# Altium footprint library PcbLib1.PcbLib: 1 footprints
Each footprint in its own frame and in the unit in brackets; x right, y up, seen from the top. Pads: shape width x height; smd on the part's side, far side on the other; paste and mask are expansions set on the pad; w line width, h text height; cw(c..) or ccw(c..) is an arc to the next point about the centre after c.
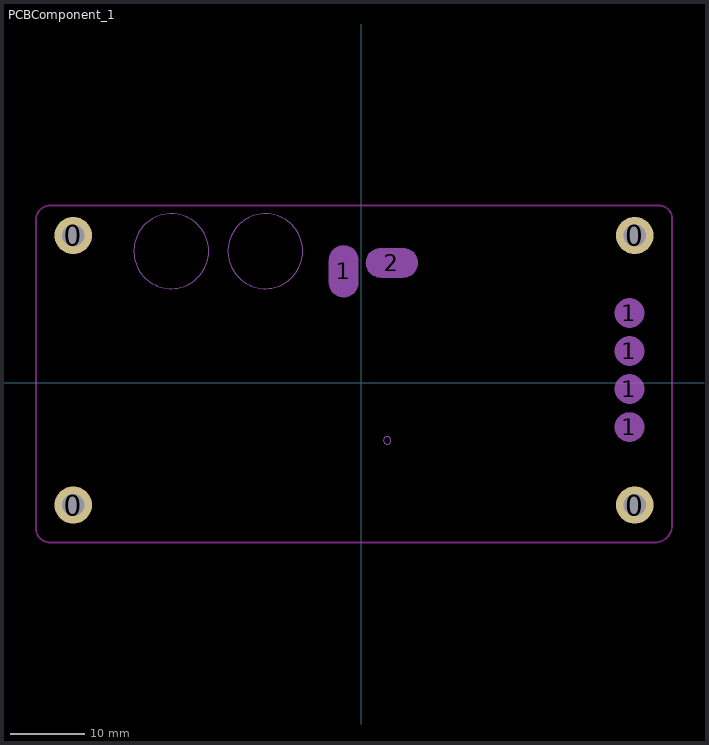
[diagram p0: the footprint, top view; thin cyan lines are the x and y axes]

## PCBComponent_1 [mm]
pads (10):
  round 5 hole 3: 0(-38.454,-16.312) 0(-38.454,19.688) 0(36.546,-16.312) 0(36.546,19.688)
  oval 4x7 on Mech15: 1(-2.34,14.895)
  round 4 on Mech15: 1(35.841,-5.906) 1(35.841,-0.826) 1(35.841,4.254) 1(35.841,9.334)
  oval 7x4 on Mech15: 2(4.104,16.038)
Top Layer:
  pour cut-out: -6.196,16.962
Keep-Out Layer:
  lines w0.254: -43.454,-19.407 ccw(c-41.549,-19.407) -41.549,-21.312 39.223,-21.312 ccw(c39.223,-18.989) 41.546,-18.989 41.546,21.925 ccw(c39.783,21.925) 39.783,23.688 -41.507,23.688 ccw(c-41.507,21.741) -43.454,21.741 -43.454,-19.407
Mechanical 13:
  circle w0.1: c3.48,-7.685 r0.5
Mechanical 15:
  circle w0.127: c-12.8,17.597 r5
  circle w0.127: c-25.373,17.597 r5
3D body "L0805.STEP": height 0.6, standoff -0.02, extent -1.626,-1.084 -0.351,0.966
3D body "L0805.STEP": height 0.6, standoff -0.02, extent -5.183,-17.079 -3.908,-15.029
3D body "L0805.STEP": height 0.6, standoff -0.02, extent -2.77,-17.079 -1.495,-15.029
3D body "L0805.STEP": height 0.6, standoff -0.02, extent -0.357,-17.079 0.918,-15.029
3D body: height 0.65, standoff 0, extent 13.794,-0.057 16.994,2.993
3D body: height 0.65, standoff 0, extent 13.794,-1.707 16.994,-0.057
3D body: height 0.65, standoff 0, extent 13.794,2.993 16.994,4.643
3D body: height 0.65, standoff 0, extent 13.794,-10.852 16.994,-7.802
3D body: height 0.65, standoff 0, extent 13.794,-7.802 16.994,-6.152
3D body: height 0.65, standoff 0, extent 13.794,-12.502 16.994,-10.852
3D body "User Library-R_0805.STEP": height 0.49, standoff -0.01, extent -9.869,5.043 -8.619,7.043
3D body "User Library-R_0805.STEP": height 0.49, standoff -0.01, extent -18.505,8.847 -17.255,10.847
3D body "User Library-RES_3216-1206.STEP": height 0.85, standoff 0, extent -10.64,-4.732 -7.29,-3.002
3D body "User Library-R_0805.STEP": height 0.49, standoff -0.01, extent -10.628,-7.412 -8.628,-6.162
3D body: height 1.25, standoff 0, extent 19.686,13.897 22.786,15.697
3D body: height 1.25, standoff 0, extent 19.686,19.201 22.786,21.001
3D body: height 1.25, standoff 0, extent 19.686,3.289 22.786,5.089
3D body: height 1.25, standoff 0, extent 19.686,8.593 22.786,10.393
3D body: height 1.25, standoff 0, extent 19.686,-7.754 22.786,-5.954
3D body: height 1.25, standoff 0, extent 19.686,-2.534 22.786,-0.734
3D body: height 1.25, standoff 0, extent 19.686,-18.192 22.786,-16.392
3D body: height 1.25, standoff 0, extent 19.686,-12.973 22.786,-11.173
3D body: height 7, standoff 0, extent -40.806,-7.409 -23.656,10.091
3D body "User Library-led_0805.step": height 1.1, standoff 0, extent -7.329,5.03 -6.079,7.05
3D body "User Library-led_0805.step": height 1.1, standoff 0, extent -21.172,8.84 -19.922,10.86
3D body "C1206.STEP": height 1, standoff 0, extent -4.723,3.841 -3.123,7.041
3D body "C1206.STEP": height 1, standoff 0, extent -1.776,3.837 -0.176,7.037
3D body "C1206.STEP": height 1, standoff 0, extent 1.272,3.837 2.872,7.037
3D body "User Library-0603 SMD Capacitor.STEP": height 0.3, standoff 0, extent 4.453,5.367 5.253,6.967
3D body "C1206.STEP": height 1, standoff 0, extent 4.902,2.179 8.102,3.779
3D body "User Library-0603 SMD Capacitor.STEP": height 0.3, standoff 0, extent -5.58,-6.317 -4.78,-4.717
3D body "User Library-0603 SMD Capacitor.STEP": height 0.3, standoff 0, extent -5.58,-9.746 -4.78,-8.146
3D body "User Library-0603 SMD Capacitor.STEP": height 0.3, standoff 0, extent -33.793,13.387 -32.193,14.187
3D body "C1206.STEP": height 1, standoff 0, extent -20.953,0.12 -19.353,3.32
3D body "C1206.STEP": height 1, standoff 0, extent -1.776,-6.484 -0.176,-3.284
3D body "User Library-0603 SMD Capacitor.STEP": height 0.3, standoff 0, extent -5.58,-2.634 -4.78,-1.034
3D body "C1206.STEP": height 1, standoff 0, extent -10.588,-1.732 -7.388,-0.132
3D body "C1206.STEP": height 1, standoff 0, extent 14.607,7.867 16.207,11.067
3D body "User Library-0603 SMD Capacitor.STEP": height 0.3, standoff 0, extent -3.675,-2.634 -2.875,-1.034
3D body "C1206.STEP": height 1, standoff 0, extent 14.607,-13.723 16.207,-10.523
3D body "RP1.STEP": height 6.35, standoff -5.08, extent -21.817,-9.581 -14.705,-2.469
3D body "HEADER.STEP": height 7.58, standoff -2.94, extent -8.99,-17.074 -6.45,-14.534
3D body "HEADER.STEP": height 7.58, standoff -2.94, extent -8.99,-19.614 -6.45,-17.074
3D body "HEADER.STEP": height 7.58, standoff -2.94, extent -11.53,-17.074 -8.99,-14.534
3D body "HEADER.STEP": height 7.58, standoff -2.94, extent -11.53,-19.614 -8.99,-17.074
3D body "HEADER.STEP": height 7.58, standoff -2.94, extent -14.07,-17.074 -11.53,-14.534
3D body "HEADER.STEP": height 7.58, standoff -2.94, extent -14.07,-19.614 -11.53,-17.074
3D body "HEADER.STEP": height 7.58, standoff -2.94, extent -16.61,-17.074 -14.07,-14.534
3D body "HEADER.STEP": height 7.58, standoff -2.94, extent -16.61,-19.614 -14.07,-17.074
3D body "HEADER.STEP": height 7.58, standoff -2.94, extent -19.15,-17.074 -16.61,-14.534
3D body "HEADER.STEP": height 7.58, standoff -2.94, extent -19.15,-19.614 -16.61,-17.074
3D body "HEADER.STEP": height 7.58, standoff -2.94, extent -21.69,-17.074 -19.15,-14.534
3D body "HEADER.STEP": height 7.58, standoff -2.94, extent -21.69,-19.614 -19.15,-17.074
3D body "HEADER.STEP": height 7.58, standoff -2.94, extent -24.23,-17.074 -21.69,-14.534
3D body "HEADER.STEP": height 7.58, standoff -2.94, extent -24.23,-19.614 -21.69,-17.074
3D body "HEADER.STEP": height 7.58, standoff -2.94, extent -26.77,-17.074 -24.23,-14.534
3D body "HEADER.STEP": height 7.58, standoff -2.94, extent -26.77,-19.614 -24.23,-17.074
3D body "HEADER.STEP": height 7.58, standoff -2.94, extent -29.31,-17.074 -26.77,-14.534
3D body "HEADER.STEP": height 7.58, standoff -2.94, extent -29.31,-19.614 -26.77,-17.074
3D body "HEADER.STEP": height 7.58, standoff -2.94, extent -31.85,-17.074 -29.31,-14.534
3D body "HEADER.STEP": height 7.58, standoff -2.94, extent -31.85,-19.614 -29.31,-17.074